# Altium footprint library P5采集核心_KKK.PcbLib: 34 footprints (part 2 of 3)
Each footprint in its own frame and in the unit in brackets; x right, y up, seen from the top. Pads: shape width x height; smd on the part's side, far side on the other; paste and mask are expansions set on the pad; w line width, h text height; cw(c..) or ccw(c..) is an arc to the next point about the centre after c.
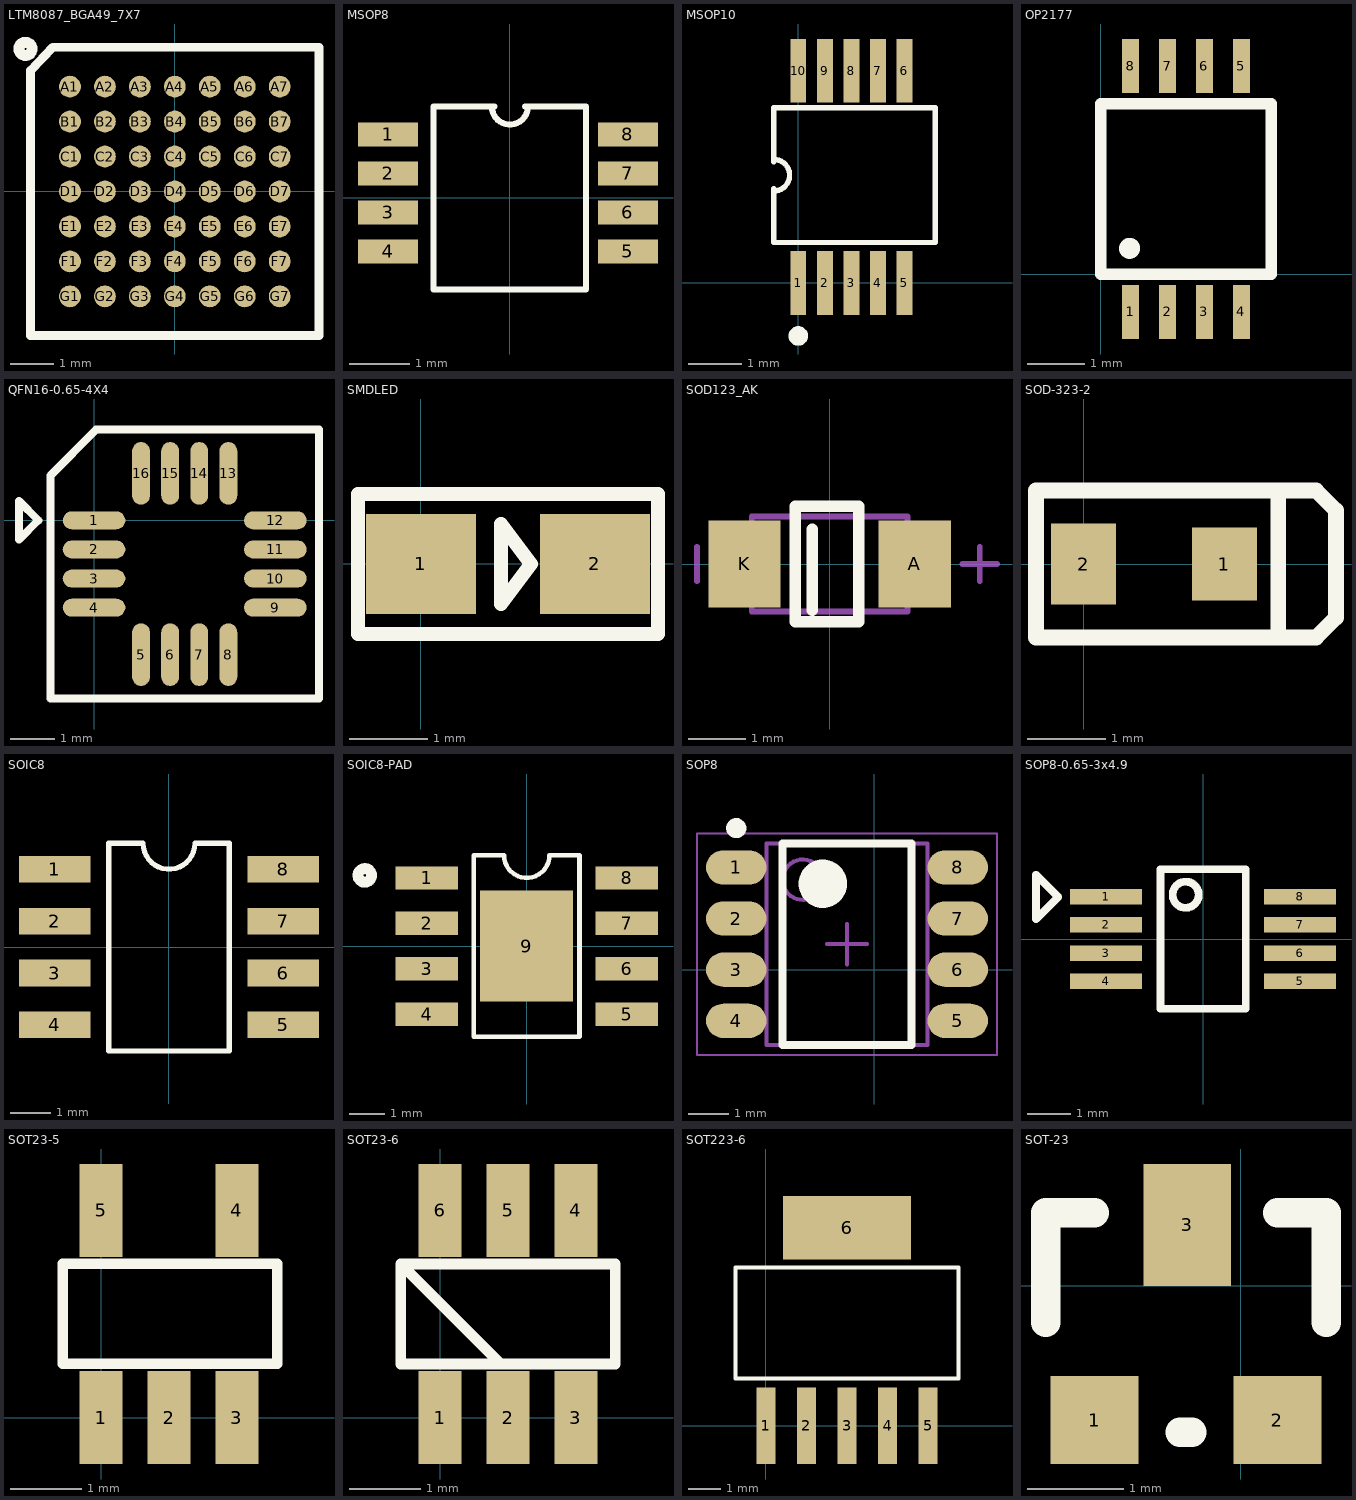
[diagram p1: the footprints below, top view; thin cyan lines are the x and y axes]

## LTM8087_BGA49_7X7 [mm]
height 3.2
pads (49):
  round 0.5 smd paste-0.05 mask-0.05: A1(-2.4,2.4) A2(-1.6,2.4) A3(-0.8,2.4) A4(0,2.4) A5(0.8,2.4) A6(1.6,2.4) A7(2.4,2.4) B1(-2.4,1.6) B2(-1.6,1.6) B3(-0.8,1.6) B4(0,1.6) B5(0.8,1.6) B6(1.6,1.6) B7(2.4,1.6) C1(-2.4,0.8) C2(-1.6,0.8) C3(-0.8,0.8) C4(0,0.8) C5(0.8,0.8) C6(1.6,0.8) C7(2.4,0.8) D1(-2.4,0) D2(-1.6,0) D3(-0.8,0) D4(0,0) D5(0.8,0) D6(1.6,0) D7(2.4,0) E1(-2.4,-0.8) E2(-1.6,-0.8) E3(-0.8,-0.8) E4(0,-0.8) E5(0.8,-0.8) E6(1.6,-0.8) E7(2.4,-0.8) F1(-2.4,-1.6) F2(-1.6,-1.6) F3(-0.8,-1.6) F4(0,-1.6) F5(0.8,-1.6) F6(1.6,-1.6) F7(2.4,-1.6) G1(-2.4,-2.4) G2(-1.6,-2.4) G3(-0.8,-2.4) G4(0,-2.4) G5(0.8,-2.4) G6(1.6,-2.4) G7(2.4,-2.4)
Top Overlay:
  circle w0.25: c-3.416,3.264 r0.15
  lines w0.203: -3.3,-3.3 3.3,-3.3 3.3,3.3 -2.794,3.3 -3.3,2.771 -3.3,-3.3

## MSOP8 [mm]
height 3.2
pads (8):
  rect 1x0.4 smd: 1(-2.032,1.061) 2(-2.032,0.411) 3(-2.032,-0.239) 4(-2.032,-0.889) 5(1.968,-0.889) 6(1.968,-0.239) 7(1.968,0.411) 8(1.968,1.061)
Top Overlay:
  lines w0.1: -0.3,1.524 ccw(c0,1.524) 0.3,1.524 ; -0.254,1.524 -1.27,1.524 -1.27,-1.524 -0.635,-1.524 0.635,-1.524 1.27,-1.524 1.27,1.524 0.254,1.524

## MSOP10 [mm]
height 3.2
pads (10):
  rect 0.3x1.2 smd: 1(0,0) 2(0.5,0) 3(1,0) 4(1.5,0) 5(2,0) 6(2,4) 7(1.5,4) 8(1,4) 9(0.5,4) 10(0,4)
Top Overlay:
  circle w0.254: c0,-1 r0.057
  lines w0.1: -0.463,1.732 ccw(c-0.463,2.032) -0.463,2.332 ; -0.463,1.778 -0.463,0.762 2.585,0.762 2.585,1.397 2.585,2.667 2.585,3.302 -0.463,3.302 -0.463,2.286

## OP2177 [mm]
pads (8):
  rect 0.3x0.95 smd: 1(0.525,-0.66) 2(1.175,-0.66) 3(1.825,-0.66) 4(2.475,-0.66) 5(2.475,3.66) 6(1.825,3.66) 7(1.175,3.66) 8(0.525,3.66)
Top Overlay:
  circle w0.254: c0.508,0.457 r0.057
  lines w0.2: 0,0 0,3 3,3 3,0 0,0

## QFN16-0.65-4X4 [mm]
pads (16):
  oval 1.4x0.4 smd: 1(0,0) 2(0,-0.65) 3(0,-1.3) 4(0,-1.95) 9(4.05,-1.95) 10(4.05,-1.3) 11(4.05,-0.65) 12(4.05,0)
  oval 0.4x1.4 smd: 5(1.05,-3) 6(1.7,-3) 7(2.35,-3) 8(3,-3) 13(3,1.05) 14(2.35,1.05) 15(1.7,1.05) 16(1.05,1.05)
Top Overlay:
  lines w0.178: -1.676,-0.432 -1.245,0 -1.676,0.432 -1.676,-0.432 ; -0.975,-3.975 -0.975,1.003 0.047,2.025 5.025,2.025 5.025,-3.975 -0.975,-3.975

## SMDLED [mm]
height 3.2
pads (2):
  rect 1.4x1.27 smd: 1(0.001,-0.002) 2(2.211,-0.002)
Top Overlay:
  lines w0.178: 3.012,0.887 3.011,0.887 ; 3.011,0.887 3.011,-0.891 -0.799,-0.891 -0.799,-0.002 -0.799,0.887 3.011,0.887 ; 1.017,-0.51 1.017,0.506 1.398,-0.002 1.017,-0.51

## SOD123_AK [mm]
height 3.2
pads (2):
  rect 1.25x1.5 smd: A(1.475,0) K(-1.475,0)
Top Overlay:
  lines w0.2: -0.3,-0.8 -0.3,0.6 ; -0.6,-1 0.5,-1 0.5,1 -0.6,1 -0.6,-1
Mechanical 13:
  lines w0.1: -1.35,-0.825 -1.35,0.825 1.35,0.825 1.35,-0.825 -1.35,-0.825
Mechanical 15:
  lines w0.1: -2.3,-0.3 -2.3,0.3 ; 2.3,0 2.9,0 ; 2.6,-0.3 2.6,0.3
3D body: height 1.35, standoff 0, extent -1.85,-0.775 1.85,0.775

## SOD-323-2 [mm]
height 3.2
pads (2):
  rect 0.83x0.93 smd: 1(1.8,0)
  rect 0.83x1.03 smd: 2(0,0)
Top Overlay:
  lines w0.2: 2.489,-0.94 2.489,0.94 ; 2.489,-0.94 2.972,-0.94 3.226,-0.686 3.226,0.686 2.972,0.94 2.489,0.94 ; 2.489,-0.94 -0.61,-0.94 -0.61,0.94 2.489,0.94
3D body: height 3, standoff 0, extent -0.584,-0.711 2.413,0.711

## SOIC8 [mm]
height 3.2
pads (8):
  rect 1.75x0.65 smd: 1(-2.794,1.905) 2(-2.794,0.635) 3(-2.794,-0.635) 4(-2.794,-1.905) 5(2.794,-1.905) 6(2.794,-0.635) 7(2.794,0.635) 8(2.794,1.905)
Top Overlay:
  lines w0.127: -1.475,2.54 -1.475,-2.54 1.473,-2.54 ; -1.473,2.54 -0.635,2.54 ccw(c0,2.54) 0.635,2.54 1.473,2.54 ; 1.475,-2.54 1.475,2.54

## SOIC8-PAD [mm]
height 3.2
pads (9):
  rect 1.75x0.65 smd: 1(-2.794,1.905) 2(-2.794,0.635) 3(-2.794,-0.635) 4(-2.794,-1.905) 5(2.794,-1.905) 6(2.794,-0.635) 7(2.794,0.635) 8(2.794,1.905)
  rect 2.6x3.1 smd: 9(0,0)
Top Overlay:
  circle w0.3: c-4.525,1.975 r0.19
  lines w0.127: -1.475,2.54 -1.475,-2.54 1.473,-2.54 ; -1.473,2.54 -0.635,2.54 ccw(c0,2.54) 0.635,2.54 1.473,2.54 ; 1.475,-2.54 1.475,2.54

## SOP8 [mm]
height 3.2
pads (8):
  oval 1.5x0.85 smd: 1(-3.429,2.54) 2(-3.429,1.27) 3(-3.429,0) 4(-3.429,-1.27) 5(2.071,-1.27) 6(2.071,0) 7(2.071,1.27) 8(2.071,2.54)
Top Overlay:
  circle w0.25: c-3.429,3.515 r0.125
  circle w0.6: c-1.279,2.135 r0.3
  lines w0.2: -2.279,-1.865 -2.279,3.135 0.921,3.135 0.921,-1.865 -2.279,-1.865
Mechanical 13:
  circle w0.1: c-1.779,2.235 r0.5
  lines w0.1: -2.679,-1.865 -2.679,3.135 1.321,3.135 1.321,-1.865 -2.679,-1.865
Mechanical 15:
  lines w0.05: -4.404,-2.115 -4.404,3.385 3.046,3.385 3.046,-2.115 -4.404,-2.115
  lines w0.1: -1.179,0.635 -0.179,0.635 ; -0.679,0.135 -0.679,1.135
3D body: height 2.65, standoff 0.25, extent -2.679,-1.865 1.321,3.135

## SOP8-0.65-3x4.9 [mm]
pads (8):
  rect 1.651x0.356 smd: 1(-2.225,0.975) 2(-2.225,0.325) 3(-2.225,-0.325) 4(-2.225,-0.975) 5(2.225,-0.975) 6(2.225,-0.325) 7(2.225,0.325) 8(2.225,0.975)
Top Overlay:
  circle w0.178: c-0.4,1.016 r0.3
  lines w0.178: -3.835,0.457 -3.835,1.473 -3.327,0.965 -3.835,0.457 ; -0.975,-1.6 -0.975,1.6 0.979,1.6 0.979,-1.6 -0.975,-1.6

## SOT23-5 [mm]
height 3.2
pads (5):
  rect 0.6x1.3 smd: 1(0,0) 2(0.95,0) 3(1.9,0) 4(1.9,2.9) 5(0,2.9)
Top Overlay:
  lines w0.15: -0.536,0.752 -0.536,2.152 2.464,2.152 2.464,0.752 -0.536,0.752

## SOT23-6 [mm]
height 3.2
pads (6):
  rect 0.6x1.3 smd: 1(0,0) 2(0.95,0) 3(1.9,0) 4(1.9,2.9) 5(0.95,2.9) 6(0,2.9)
Top Overlay:
  lines w0.15: 0.85,0.75 -0.55,2.15 ; -0.55,2.15 -0.55,0.75 2.45,0.75 2.45,2.15 -0.55,2.15

## SOT223-6 [mm]
height 1.2
pads (6):
  rect 0.6x2.4 smd: 1(0,0) 2(1.27,0) 3(2.54,0) 4(3.81,0) 5(5.08,0)
  rect 4x2 smd: 6(2.54,6.2)
Top Overlay:
  lines w0.127: -0.96,1.485 -0.96,4.955 6.04,4.955 6.04,1.485 5.518,1.485 -0.96,1.485

## SOT-23 [mil]
height 125.98
pads (3):
  rect 36x36 smd: 1(-60,-55) 2(15,-55)
  rect 36x50 smd: 3(-22,25)
Top Overlay:
  lines w12: -80,-15 -80,30 -60,30 ; -25,-60 -20,-60 ; 15,30 35,30 35,-15